# EAGLE library part CON_MICROUSB_ZX62R-B-5P (library Bauelemente)
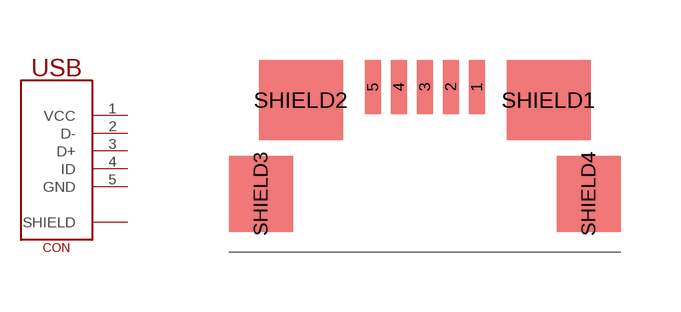
[diagram p2: symbol with the pads of CON_MICROUSB_ZX62R-B-5P; footprint CON_MICROUSB_ZX62R-B-5P]

Designator prefix CON

## CON_MICROUSB_ZX62R-B-5P  [CON_MICROUSB_ZX62R-B-5P]
1  VCC  sup
2  D-
3  D+
4  ID  pas
5  GND  sup
SHIELD1  SHIELD  pas
SHIELD2  SHIELD  pas
SHIELD3  SHIELD  pas
SHIELD4  SHIELD  pas

## Footprint CON_MICROUSB_ZX62R-B-5P (pad centres in mm)
smd 0.4 x 1.35: 1 1.3,-0.675; 2 0.65,-0.675; 3 0,-0.675; 4 -0.65,-0.675; 5 -1.3,-0.675
smd 2.1 x 2: SHIELD1 3.1,-1; SHIELD2 -3.1,-1
smd 1.6 x 1.9: SHIELD3 -4.1,-3.35; SHIELD4 4.1,-3.35